# Altium schematic symbol library Hydrophone.SchLib: 16 symbols
Pins are listed as number, name and electrical type; pins without a type are passive.

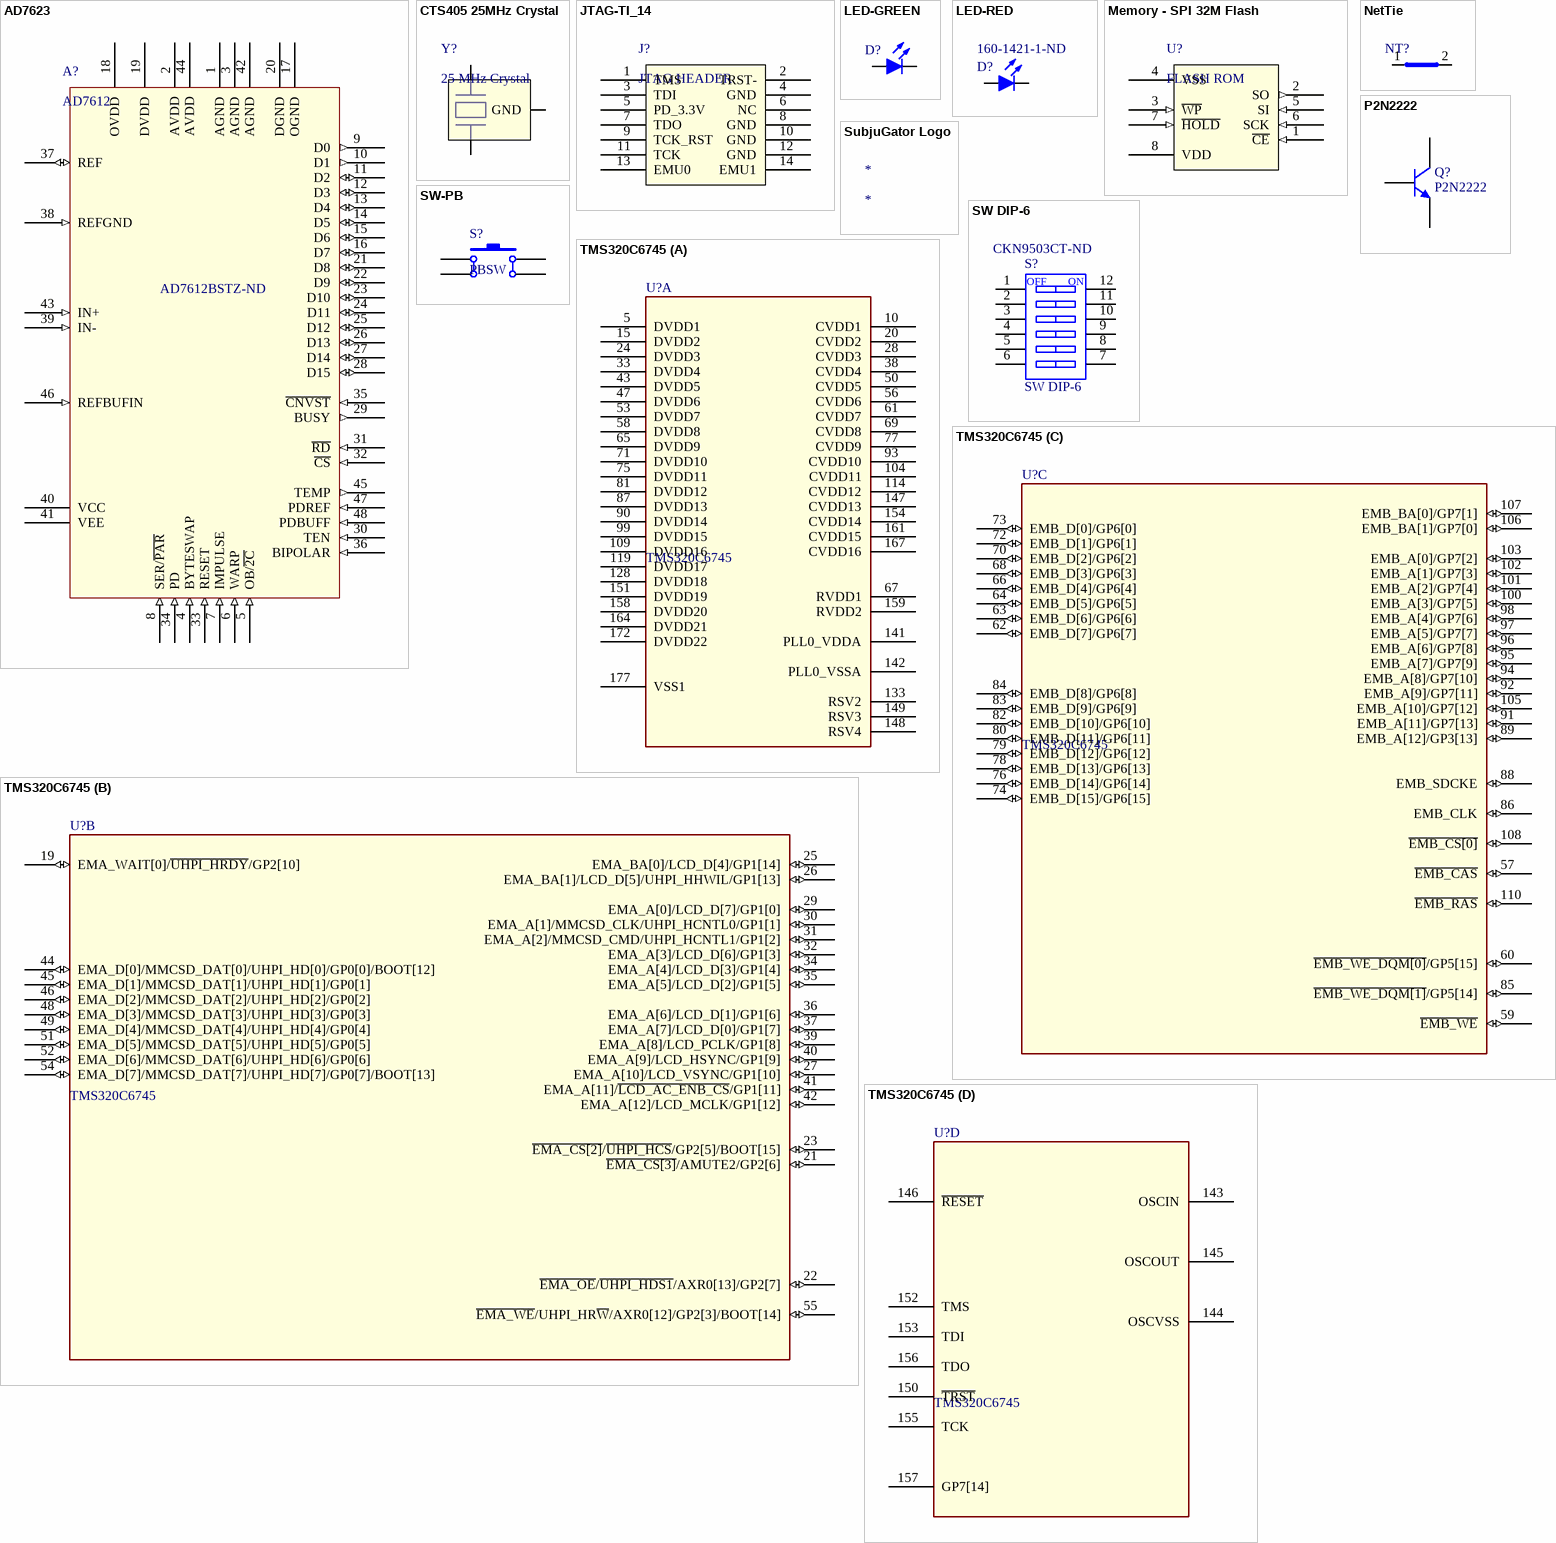
[diagram p0: symbols AD7623 to TMS320C6745]

## AD7623
designator A?, comment AD7612  Supplier Part Number: AD7612BSTZ-ND
Manufacturer Part Number: AD7612BSTZ; Manufacturer: Analog Devices Inc; Data Interface: Serial, Parallel; Sampling Rate (Per Second): 750k; Number of Bits: 16; Description: IC ADC 16BIT 750KSPS SAR 48-LQFP; Package / Case: 48-LQFP; Supplier: Digi-Key
footprint LQFP-48N (TSQFP, 48-Leads, Body 9.2x9.2mm (max), Pitch 0.50mm, IPC Medium Density)
pins: 1 AGND (power), 2 AVDD (power), 3 AGND (power), 4 BYTESWAP (in), 5 OB/~{2C} (in), 6 WARP (in), 7 IMPULSE (in), 8 SER/~{PAR} (in), 9 D0 (out), 10 D1 (out), 11 D2 (io), 12 D3 (io), 13 D4 (io), 14 D5 (io), 15 D6 (io), 16 D7 (io), 17 OGND (power), 18 OVDD (power), 19 DVDD (power), 20 DGND (power), 21 D8 (io), 22 D9 (io), 23 D10 (io), 24 D11 (io), 25 D12 (io), 26 D13 (io), 27 D14 (io), 28 D15 (io), 29 BUSY (out), 30 TEN (in), 31 ~{RD} (in), 32 ~{CS} (in), 33 RESET (in), 34 PD (in), 35 ~{CNVST} (in), 36 BIPOLAR (in), 37 REF (io), 38 REFGND (in), 39 IN- (in), 40 VCC (power), 41 VEE (power), 42 AGND (power), 43 IN+ (in), 44 AVDD (power), 45 TEMP (out), 46 REFBUFIN (in), 47 PDREF (in), 48 PDBUFF (in)

## CTS405 25MHz Crystal
designator Y?, comment 25 MHz Crystal
Manufacturer Part Number: 405C35B25M00000; Manufacturer: CTS-Frequency Controls; Description: CRYSTAL 25.000000 MHZ 13PF SMD; Frequency Stability: ±50ppm; ESR (Equivalent Series Resistance): 50 Ohm; Frequency: 25MHz; Load Capacitance: 13pF; Frequency Tolerance: ±30ppm; Supplier: Digi-Key; Package / Case: 4-SMD, No Lead (DFN, LCC); Supplier Part Number: CTX652TR-ND
footprint CTS405
pins: 1, 2,4 GND, 3 2

## JTAG-TI_14
designator J?, comment JTAG HEADER
14 Pin JTAG Header
footprint JTAG HEADER - 14
pins: 1 TMS, 2 TRST-, 3 TDI, 4 GND, 5 PD_3.3V, 6 NC, 7 TDO, 8 GND, 9 TCK_RST, 10 GND, 11 TCK, 12 GND, 13 EMU0, 14 EMU1

## LED-GREEN
designator D?  (value not drawn)
Light Emitting Diode - GREEN; Manufacturer: Lite-On Inc; Manufacturer Part Number: LTST-S220KGKT; Millicandela Rating: 35mcd; Viewing Angle: 130°; Voltage - Forward (Vf) Typ: 2V; Description: LED GREEN CLEAR 0805 RT ANG SMD; Package / Case: 0805 (2012 Metric); Color: Green; Supplier: Digi-Key; Supplier Part Number: 160-1468-1-ND
footprint LED0805-GREEN (Molded Diode, 2-Leads, Body 2.0x1.3mm, IPC Medium Density)
pins: 1 K, 2 A

## LED-RED
designator D?  Supplier Part Number: 160-1421-1-ND  (hidden comment: LED-RED)
Light Emitting Diode - RED; Manufacturer Part Number: LTST-C171CKT; Manufacturer: Lite-On Inc; Voltage - Forward (Vf) Typ: 1.8V; Current - Test: 20mA; Millicandela Rating: 25mcd; Viewing Angle: 130°; Description: LED ALGAAS RED THIN 0805 SMD; Color: Red; Supplier: Digi-Key; Package / Case: 0805 (2012 Metric)
footprint LED0805-RED (Molded Diode, 2-Leads, Body 2.0x1.3mm, IPC Medium Density)
pins: 1 K, 2 A

## Memory - SPI 32M Flash
designator U?, comment FLASH ROM
IC FLASH SER 32M 80MHZ SPI 8SOIC; Manufacturer Part Number: SST25VF032B-80-4I-S2AF; Manufacturer: Microchip Technology; Voltage - Supply: 2.7 V ~ 3.6 V; Memory Size: 32M (4M x 8); Interface: SPI Serial; Memory Type: FLASH; Supplier: Digi-Key; Package / Case: 8-SOIC (0.209", 5.30mm Width); Supplier Part Number: SST25VF032B-80-4I-S2AF-ND
footprint SOIC-8N (SOIC, 8-Leads, Body 5.4x5.4mm (max), Pitch 1.27mm, IPC Medium Density)
pins: 1 ~{CE} (in), 2 SO (out), 3 ~{WP} (in), 4 VSS (power), 5 SI (in), 6 SCK (in), 7 ~{HOLD} (in), 8 VDD (power)

## MIL LOGO
designator MIL  (value not drawn)
footprint MIL LOGO - 500
footprint MIL LOGO - 400

## NetTie
designator NT?, comment Net Tie SMT  (value not drawn)  (net tie, no BOM)
Net-Tie, Surface Mount
footprint NetTie 35 mil
pins: 1 Net1, 2 Net2

## P2N2222
designator Q?
TRANS GP SS NPN LP 40V TO92; Manufacturer Part Number: P2N2222AG; Manufacturer: ON Semiconductor; Transistor Type: NPN; Voltage - Collector Emitter Breakdown (Max): 40V; Supplier: Digi-Key; Package / Case: TO-226-3, TO-92-3 (TO-226AA); Supplier Part Number: P2N2222AGOS-ND
footprint TO-92A (TO, Flat Index; 3 In-Line, Axial Leads; Body Dia. 4.5mm; Leads 0.51 x 0.48 mm (max))
pins: 1 C, 2 B, 3 E

## SubjuGator Logo
designator *
footprint SubjuGator-800
footprint SubjuGator-1200

## SW DIP-6
designator S?  Supplier Part Number: CKN9503CT-ND
SWITCH DIP 6POS HALF PITCH SMD; Manufacturer: C&K Components; Manufacturer Part Number: TDA06H0SB1R; Contact Rating @ Voltage: 0.025A @ 24VDC; Number of Positions: 6; Circuit: SPST; Actuator Level: Flush; Supplier: Digi-Key
footprint DIPSW-6 (6 POS Dip SW)
pins: 1 A1, 2 A2, 3 A3, 4 A4, 5 A5, 6 A6, 7 B6, 8 B5, 9 B4, 10 B3, 11 B2, 12 B1
text: OFF; ON

## SW-PB
designator S?, comment PBSW
Push Button Switch; Manufacturer: Panasonic Electronic Components; Manufacturer Part Number: EVQ-9P105M; Description: SWITCH TACTILE SPST-NO 0.05A 12V; Outline: 6.10mm x 6.00mm; Actuator Orientation: Top Actuated; Actuator Height off PCB, from Pins: 5.00mm; Published: 24-Mar-1999; LatestRevisionDate: 17-Jul-2002; LatestRevisionNote: Re-released for DXP Platform.; PackageReference: SPST-2; Publisher: Altium Limited; PackageDescription: Switch; 2 Leads; Supplier: Digi-Key; Supplier Part Number: P13586SCT-ND
footprint PBSW
pins: 1 A, 2 A' hidden to 1, 2 A', 3 B, 4 B' hidden to 3, 4 B'

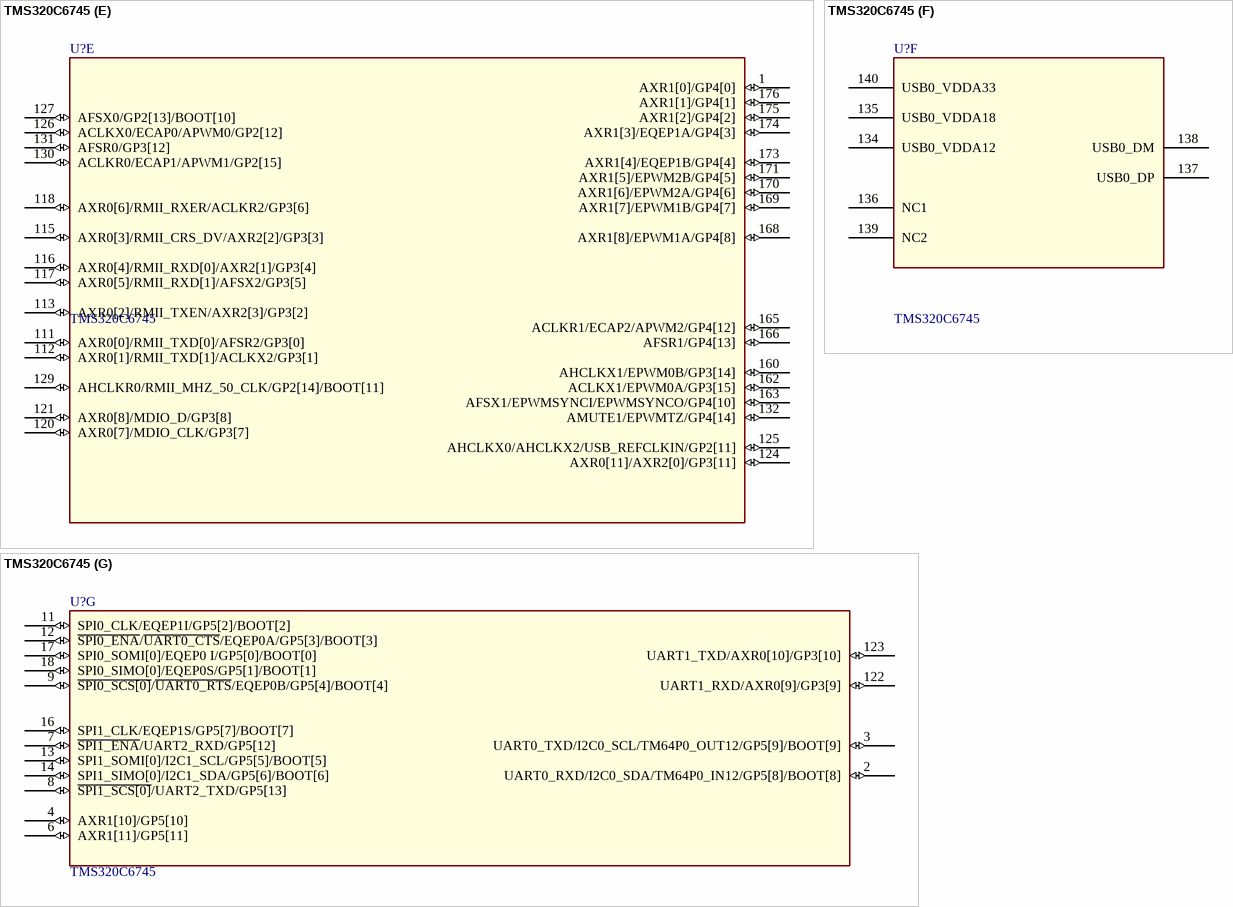
[diagram p1: symbol TMS320C6745]

## TMS320C6745
designator U?
IC DSP FIX/FLOAT POINT 176HLQFP; Manufacturer Part Number: TMS320C6745CPTP4; Manufacturer: Texas Instruments; Voltage - Core: 1.20V; On-Chip RAM: 320kB; Voltage - I/O: 3.30V; Clock Rate: 456MHz; SlotXofY: SYM 7 OF 7; Supplier: Digi-Key; Type: Fixed/Floating Point; Package / Case: 176-LQFP Exposed Pad; SymName: TMS320C6745; Supplier Part Number: 296-30152-5-ND
footprint PQFP-176N (PQFP, 176-Leads, Body 25.8x25.8mm (max), Pitch 0.50mm, IPC Medium Density)
part A pins: 5 DVDD1 (power), 10 CVDD1 (power), 15 DVDD2 (power), 20 CVDD2 (power), 24 DVDD3 (power), 28 CVDD3 (power), 33 DVDD4 (power), 38 CVDD4 (power), 43 DVDD5 (power), 47 DVDD6 (power), 50 CVDD5 (power), 53 DVDD7 (power), 56 CVDD6 (power), 58 DVDD8 (power), 61 CVDD7 (power), 65 DVDD9 (power), 67 RVDD1 (power), 69 CVDD8 (power), 71 DVDD10 (power), 75 DVDD11 (power), 77 CVDD9 (power), 81 DVDD12 (power), 87 DVDD13 (power), 90 DVDD14 (power), 93 CVDD10 (power), 99 DVDD15 (power), 104 CVDD11 (power), 109 DVDD16 (power), 114 CVDD12 (power), 119 DVDD17 (power), 128 DVDD18 (power), 133 RSV2, 141 PLL0_VDDA, 142 PLL0_VSSA, 147 CVDD13 (power), 148 RSV4, 149 RSV3, 151 DVDD19 (power), 154 CVDD14 (power), 158 DVDD20 (power), 159 RVDD2 (power), 161 CVDD15 (power), 164 DVDD21 (power), 167 CVDD16 (power), 172 DVDD22, 177 VSS1 (power)
part B pins: 19 EMA_WAIT[0]/~{UHPI_HRDY}/GP2[10] (io), 21 ~{EMA_CS[3]}/AMUTE2/GP2[6] (io), 22 ~{EMA_OE}/~{UHPI_HDS1}/AXR0[13]/GP2[7] (io), 23 ~{EMA_CS[2]}/~{UHPI_HCS}/GP2[5]/BOOT[15] (io), 25 EMA_BA[0]/LCD_D[4]/GP1[14] (io), 26 EMA_BA[1]/LCD_D[5]/UHPI_HHWIL/GP1[13] (io), 27 EMA_A[10]/LCD_VSYNC/GP1[10] (io), 29 EMA_A[0]/LCD_D[7]/GP1[0] (io), 30 EMA_A[1]/MMCSD_CLK/UHPI_HCNTL0/GP1[1] (io), 31 EMA_A[2]/MMCSD_CMD/UHPI_HCNTL1/GP1[2] (io), 32 EMA_A[3]/LCD_D[6]/GP1[3] (io), 34 EMA_A[4]/LCD_D[3]/GP1[4] (io), 35 EMA_A[5]/LCD_D[2]/GP1[5] (io), 36 EMA_A[6]/LCD_D[1]/GP1[6] (io), 37 EMA_A[7]/LCD_D[0]/GP1[7] (io), 39 EMA_A[8]/LCD_PCLK/GP1[8] (io), 40 EMA_A[9]/LCD_HSYNC/GP1[9] (io), 41 EMA_A[11]/~{LCD_AC_ENB_CS}/GP1[11] (io), 42 EMA_A[12]/LCD_MCLK/GP1[12] (io), 44 EMA_D[0]/MMCSD_DAT[0]/UHPI_HD[0]/GP0[0]/BOOT[12] (io), 45 EMA_D[1]/MMCSD_DAT[1]/UHPI_HD[1]/GP0[1] (io), 46 EMA_D[2]/MMCSD_DAT[2]/UHPI_HD[2]/GP0[2] (io), 48 EMA_D[3]/MMCSD_DAT[3]/UHPI_HD[3]/GP0[3] (io), 49 EMA_D[4]/MMCSD_DAT[4]/UHPI_HD[4]/GP0[4] (io), 51 EMA_D[5]/MMCSD_DAT[5]/UHPI_HD[5]/GP0[5] (io), 52 EMA_D[6]/MMCSD_DAT[6]/UHPI_HD[6]/GP0[6] (io), 54 EMA_D[7]/MMCSD_DAT[7]/UHPI_HD[7]/GP0[7]/BOOT[13] (io), 55 ~{EMA_WE}/UHPI_HR~{W}/AXR0[12]/GP2[3]/BOOT[14] (io)
part C pins: 57 ~{EMB_CAS} (io), 59 ~{EMB_WE} (io), 60 ~{EMB_WE_DQM[0]}/GP5[15] (io), 62 EMB_D[7]/GP6[7] (io), 63 EMB_D[6]/GP6[6] (io), 64 EMB_D[5]/GP6[5] (io), 66 EMB_D[4]/GP6[4] (io), 68 EMB_D[3]/GP6[3] (io), 70 EMB_D[2]/GP6[2] (io), 72 EMB_D[1]/GP6[1] (io), 73 EMB_D[0]/GP6[0] (io), 74 EMB_D[15]/GP6[15] (io), 76 EMB_D[14]/GP6[14] (io), 78 EMB_D[13]/GP6[13] (io), 79 EMB_D[12]/GP6[12] (io), 80 EMB_D[11]/GP6[11] (io), 82 EMB_D[10]/GP6[10] (io), 83 EMB_D[9]/GP6[9] (io), 84 EMB_D[8]/GP6[8] (io), 85 ~{EMB_WE_DQM[1]}/GP5[14] (io), 86 EMB_CLK (io), 88 EMB_SDCKE (io), 89 EMB_A[12]/GP3[13] (io), 91 EMB_A[11]/GP7[13] (io), 92 EMB_A[9]/GP7[11] (io), 94 EMB_A[8]/GP7[10] (io), 95 EMB_A[7]/GP7[9] (io), 96 EMB_A[6]/GP7[8] (io), 97 EMB_A[5]/GP7[7] (io), 98 EMB_A[4]/GP7[6] (io), 100 EMB_A[3]/GP7[5] (io), 101 EMB_A[2]/GP7[4] (io), 102 EMB_A[1]/GP7[3] (io), 103 EMB_A[0]/GP7[2] (io), 105 EMB_A[10]/GP7[12] (io), 106 EMB_BA[1]/GP7[0] (io), 107 EMB_BA[0]/GP7[1] (io), 108 ~{EMB_CS[0]} (io), 110 ~{EMB_RAS} (io)
part D pins: 143 OSCIN, 144 OSCVSS, 145 OSCOUT, 146 ~{RESET}, 150 ~{TRST}, 152 TMS, 153 TDI, 155 TCK, 156 TDO, 157 GP7[14]
part E pins: 1 AXR1[0]/GP4[0] (io), 111 AXR0[0]/RMII_TXD[0]/AFSR2/GP3[0] (io), 112 AXR0[1]/RMII_TXD[1]/ACLKX2/GP3[1] (io), 113 AXR0[2]/RMII_TXEN/AXR2[3]/GP3[2] (io), 115 AXR0[3]/RMII_CRS_DV/AXR2[2]/GP3[3] (io), 116 AXR0[4]/RMII_RXD[0]/AXR2[1]/GP3[4] (io), 117 AXR0[5]/RMII_RXD[1]/AFSX2/GP3[5] (io), 118 AXR0[6]/RMII_RXER/ACLKR2/GP3[6] (io), 120 AXR0[7]/MDIO_CLK/GP3[7] (io), 121 AXR0[8]/MDIO_D/GP3[8] (io), 124 AXR0[11]/AXR2[0]/GP3[11] (io), 125 AHCLKX0/AHCLKX2/USB_REFCLKIN/GP2[11] (io), 126 ACLKX0/ECAP0/APWM0/GP2[12] (io), 127 AFSX0/GP2[13]/BOOT[10] (io), 129 AHCLKR0/RMII_MHZ_50_CLK/GP2[14]/BOOT[11] (io), 130 ACLKR0/ECAP1/APWM1/GP2[15] (io), 131 AFSR0/GP3[12] (io), 132 AMUTE1/EPWMTZ/GP4[14] (io), 160 AHCLKX1/EPWM0B/GP3[14] (io), 162 ACLKX1/EPWM0A/GP3[15] (io), 163 AFSX1/EPWMSYNCI/EPWMSYNCO/GP4[10] (io), 165 ACLKR1/ECAP2/APWM2/GP4[12] (io), 166 AFSR1/GP4[13] (io), 168 AXR1[8]/EPWM1A/GP4[8] (io), 169 AXR1[7]/EPWM1B/GP4[7] (io), 170 AXR1[6]/EPWM2A/GP4[6] (io), 171 AXR1[5]/EPWM2B/GP4[5] (io), 173 AXR1[4]/EQEP1B/GP4[4] (io), 174 AXR1[3]/EQEP1A/GP4[3] (io), 175 AXR1[2]/GP4[2] (io), 176 AXR1[1]/GP4[1] (io)
part F pins: 134 USB0_VDDA12, 135 USB0_VDDA18, 136 NC1, 137 USB0_DP, 138 USB0_DM, 139 NC2, 140 USB0_VDDA33
part G pins: 2 UART0_RXD/I2C0_SDA/TM64P0_IN12/GP5[8]/BOOT[8] (io), 3 UART0_TXD/I2C0_SCL/TM64P0_OUT12/GP5[9]/BOOT[9] (io), 4 AXR1[10]/GP5[10] (io), 6 AXR1[11]/GP5[11] (io), 7 ~{SPI1_ENA}/UART2_RXD/GP5[12] (io), 8 ~{SPI1_SCS[0]}/UART2_TXD/GP5[13] (io), 9 ~{SPI0_SCS[0]}/~{UART0_RTS}/EQEP0B/GP5[4]/BOOT[4] (io), 11 SPI0_CLK/EQEP1I/GP5[2]/BOOT[2] (io), 12 ~{SPI0_ENA}/~{UART0_CTS}/EQEP0A/GP5[3]/BOOT[3] (io), 13 SPI1_SOMI[0]/I2C1_SCL/GP5[5]/BOOT[5] (io), 14 SPI1_SIMO[0]/I2C1_SDA/GP5[6]/BOOT[6] (io), 16 SPI1_CLK/EQEP1S/GP5[7]/BOOT[7] (io), 17 SPI0_SOMI[0]/EQEP0 I/GP5[0]/BOOT[0] (io), 18 SPI0_SIMO[0]/EQEP0S/GP5[1]/BOOT[1] (io), 122 UART1_RXD/AXR0[9]/GP3[9] (io), 123 UART1_TXD/AXR0[10]/GP3[10] (io)

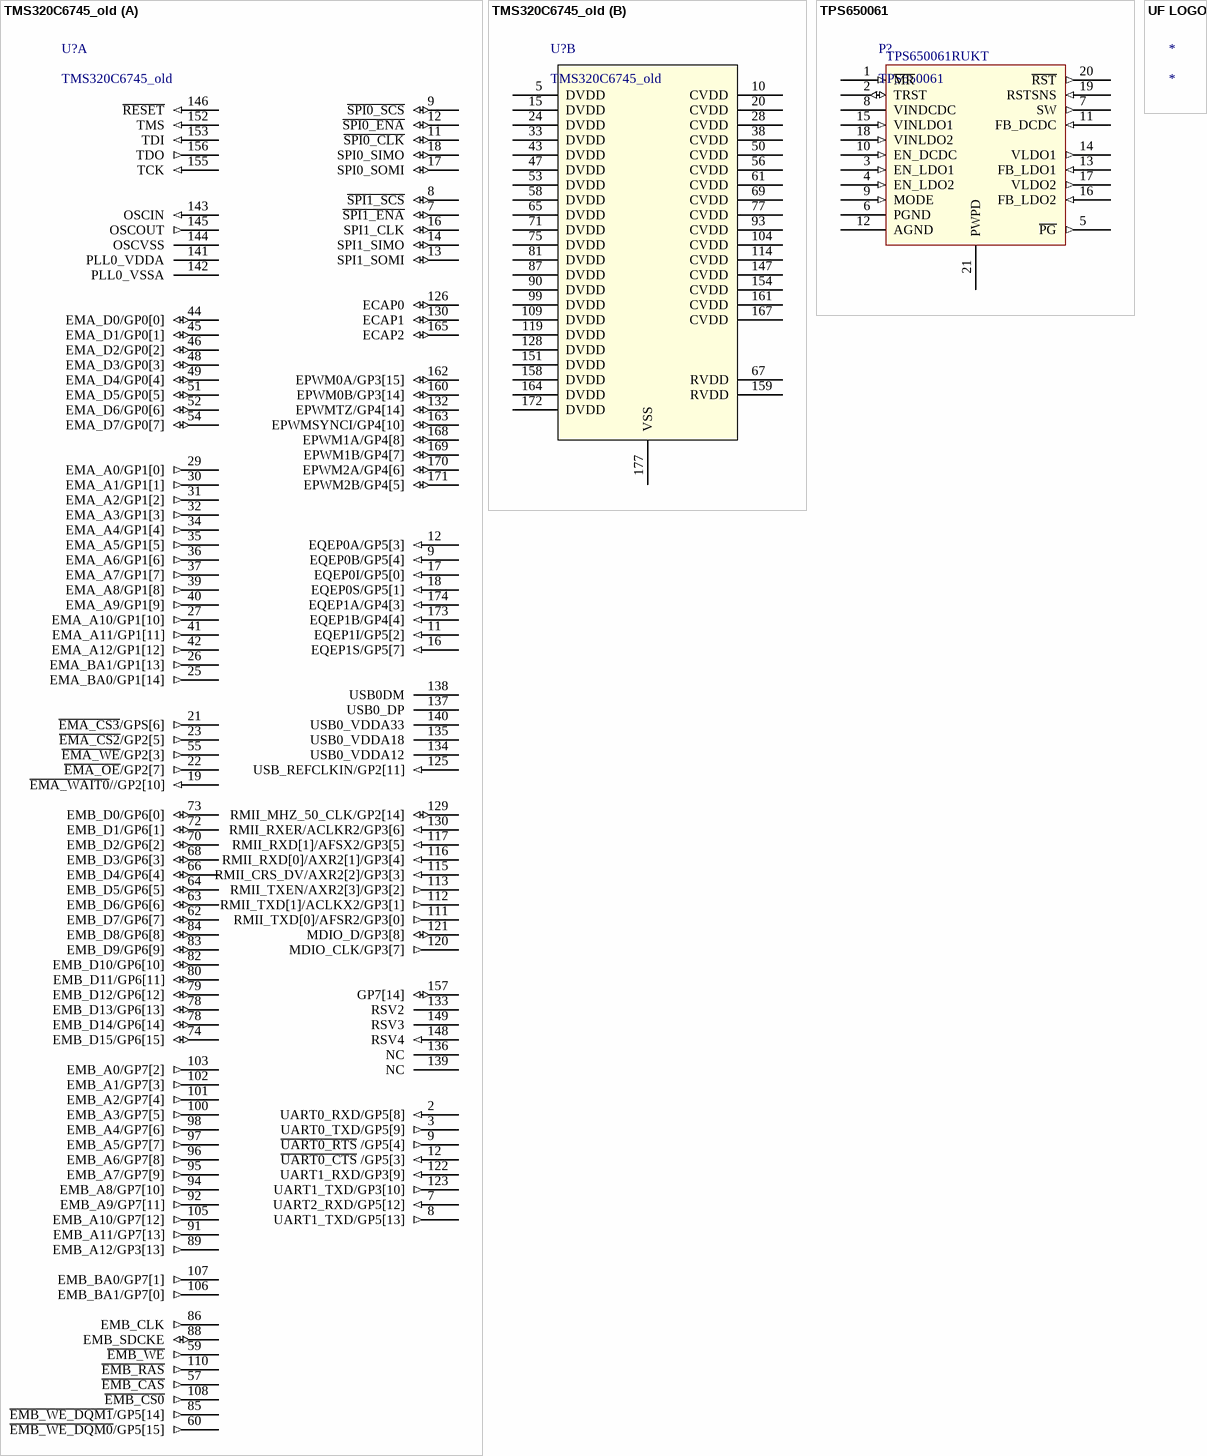
[diagram p2: symbols TMS320C6745_old to UF LOGO]

## TMS320C6745_old
designator U?
Manufacturer: Texas Instruments; Manufacturer Part Number: TMS320C6745CPTP4; Voltage - Core: 1.20V; Clock Rate: 456MHz; Description: IC DSP FIX/FLOAT POINT 176HLQFP; Voltage - I/O: 3.30V; Supplier Device Package: 176-HLQFP (24x24); Supplier: Digi-Key; Package / Case: 176-LQFP Exposed Pad; Type: Fixed/Floating Point; Supplier Part Number: 296-30152-5-ND
part A pins: 2 UART0_RXD/GP5[8] (in), 3 UART0_TXD/GP5[9] (out), 7 ~{SPI1_ENA} (io), 7 UART2_RXD/GP5[12] (in), 8 ~{SPI1_SCS} (io), 8 UART1_TXD/GP5[13] (out), 9 ~{SPI0_SCS} (io), 9 EQEP0B/GP5[4] (in), 9 ~{UART0_RTS} /GP5[4] (out), 11 ~{SPI0_CLK} (io), 11 EQEP1I/GP5[2] (in), 12 ~{SPI0_ENA} (io), 12 EQEP0A/GP5[3] (in), 12 ~{UART0_CTS} /GP5[3] (in), 13 SPI1_SOMI (io), 14 SPI1_SIMO (io), 16 SPI1_CLK (io), 16 EQEP1S/GP5[7] (in), 17 SPI0_SOMI (io), 17 EQEP0I/GP5[0] (in), 18 SPI0_SIMO (io), 18 EQEP0S/GP5[1] (in), 19 ~{EMA_WAIT0}//GP2[10] (in), 21 ~{EMA_CS3}/GPS[6] (out), 22 ~{EMA_OE}/GP2[7] (out), 23 ~{EMA_CS2}/GP2[5] (out), 25 EMA_BA0/GP1[14] (out), 26 EMA_BA1/GP1[13] (out), 27 EMA_A10/GP1[10] (out), 29 EMA_A0/GP1[0] (out), 30 EMA_A1/GP1[1] (out), 31 EMA_A2/GP1[2] (out), 32 EMA_A3/GP1[3] (out), 34 EMA_A4/GP1[4] (out), 35 EMA_A5/GP1[5] (out), 36 EMA_A6/GP1[6] (out), 37 EMA_A7/GP1[7] (out), 39 EMA_A8/GP1[8] (out), 40 EMA_A9/GP1[9] (out), 41 EMA_A11/GP1[11] (out), 42 EMA_A12/GP1[12] (out), 44 EMA_D0/GP0[0] (io), 45 EMA_D1/GP0[1] (io), 46 EMA_D2/GP0[2] (io), 48 EMA_D3/GP0[3] (io), 49 EMA_D4/GP0[4] (io), 51 EMA_D5/GP0[5] (io), 52 EMA_D6/GP0[6] (io), 54 EMA_D7/GP0[7] (io), 55 ~{EMA_WE}/GP2[3] (out), 57 ~{EMB_CAS} (out), 59 ~{EMB_WE} (out), 60 ~{EMB_WE_DQM0}/GP5[15] (out), 62 EMB_D7/GP6[7] (io), 63 EMB_D6/GP6[6] (io), 64 EMB_D5/GP6[5] (io), 66 EMB_D4/GP6[4] (io), 68 EMB_D3/GP6[3] (io), 70 EMB_D2/GP6[2] (io), 72 EMB_D1/GP6[1] (io), 73 EMB_D0/GP6[0] (io), 74 EMB_D15/GP6[15] (io), 78 EMB_D13/GP6[13] (io), 78 EMB_D14/GP6[14] (io), 79 EMB_D12/GP6[12] (io), 80 EMB_D11/GP6[11] (io), 82 EMB_D10/GP6[10] (io), 83 EMB_D9/GP6[9] (io), 84 EMB_D8/GP6[8] (io), 85 ~{EMB_WE_DQM1}/GP5[14] (out), 86 EMB_CLK (out), 88 EMB_SDCKE (io), 89 EMB_A12/GP3[13] (out), 91 EMB_A11/GP7[13] (out), 92 EMB_A9/GP7[11] (out), 94 EMB_A8/GP7[10] (out), 95 EMB_A7/GP7[9] (out), 96 EMB_A6/GP7[8] (out), 97 EMB_A5/GP7[7] (out), 98 EMB_A4/GP7[6] (out), 100 EMB_A3/GP7[5] (out), 101 EMB_A2/GP7[4] (out), 102 EMB_A1/GP7[3] (out), 103 EMB_A0/GP7[2] (out), 105 EMB_A10/GP7[12] (out), 106 EMB_BA1/GP7[0] (out), 107 EMB_BA0/GP7[1] (out), 108 ~{EMB_CS0} (out), 110 ~{EMB_RAS} (out), 111 RMII_TXD[0]/AFSR2/GP3[0] (out), 112 RMII_TXD[1]/ACLKX2/GP3[1] (out), 113 RMII_TXEN/AXR2[3]/GP3[2] (out), 115 RMII_CRS_DV/AXR2[2]/GP3[3] (in), 116 RMII_RXD[0]/AXR2[1]/GP3[4] (in), 117 RMII_RXD[1]/AFSX2/GP3[5] (in), 120 MDIO_CLK/GP3[7] (out), 121 MDIO_D/GP3[8] (io), 122 UART1_RXD/GP3[9] (in), 123 UART1_TXD/GP3[10] (out), 125 USB_REFCLKIN/GP2[11] (in), 126 ECAP0 (io), 129 RMII_MHZ_50_CLK/GP2[14] (io), 130 ECAP1 (io), 130 RMII_RXER/ACLKR2/GP3[6] (in), 132 EPWMTZ/GP4[14] (io), 133 RSV2 (power), 134 USB0_VDDA12 (power), 135 USB0_VDDA18 (power), 136 NC, 137 USB0_DP, 138 USB0DM, 139 NC, 140 USB0_VDDA33 (power), 141 PLL0_VDDA (power), 142 PLL0_VSSA (power), 143 OSCIN (in), 144 OSCVSS (power), 145 OSCOUT (out), 146 ~{RESET} (in), 148 RSV4 (in), 149 RSV3 (power), 152 TMS (in), 153 TDI (in), 155 TCK (in), 156 TDO (out), 157 GP7[14] (io), 160 EPWM0B/GP3[14] (io), 162 EPWM0A/GP3[15] (io), 163 EPWMSYNCI/GP4[10] (io), 165 ECAP2 (io), 168 EPWM1A/GP4[8] (io), 169 EPWM1B/GP4[7] (io), 170 EPWM2A/GP4[6] (io), 171 EPWM2B/GP4[5] (io), 173 EQEP1B/GP4[4] (in), 174 EQEP1A/GP4[3] (in)
part B pins: 5 DVDD (power), 10 CVDD (power), 15 DVDD (power), 20 CVDD (power), 24 DVDD (power), 28 CVDD (power), 33 DVDD (power), 38 CVDD (power), 43 DVDD (power), 47 DVDD (power), 50 CVDD (power), 53 DVDD (power), 56 CVDD (power), 58 DVDD (power), 61 CVDD (power), 65 DVDD (power), 67 RVDD (power), 69 CVDD (power), 71 DVDD (power), 75 DVDD (power), 77 CVDD (power), 81 DVDD (power), 87 DVDD (power), 90 DVDD (power), 93 CVDD (power), 99 DVDD (power), 104 CVDD (power), 109 DVDD (power), 114 CVDD (power), 119 DVDD (power), 128 DVDD (power), 147 CVDD (power), 151 DVDD (power), 154 CVDD (power), 158 DVDD (power), 159 RVDD (power), 161 CVDD (power), 164 DVDD (power), 167 CVDD (power), 172 DVDD (power), 177 VSS (power)

## TPS650061
designator P?  Manufacturer Part Number: TPS650061RUKT
IC CONV STP-DWN 2.25MHZ DL 20QFN; Manufacturer: Texas Instruments; Voltage - Supply: 2.3 V ~ 6 V; Operating Temperature: -40°C ~ 85°C; Package / Case: 20-WFQFN Exposed Pad; Supplier: Digi-Key; Supplier Part Number: 296-25358-1-ND
footprint QFN4-20N (QFN, 20-Leads, Body 3.1x3.1mm (max), Pitch 0.40mm, IPC Medium Density)
pins: 1 ~{MR} (in), 2 TRST (io), 3 EN_LDO1 (in), 4 EN_LDO2 (in), 5 ~{PG} (out), 6 PGND (power), 7 SW (out), 8 VINDCDC (power), 9 MODE (in), 10 EN_DCDC (in), 11 FB_DCDC (in), 12 AGND (power), 13 FB_LDO1 (in), 14 VLDO1 (out), 15 VINLDO1 (in), 16 FB_LDO2 (in), 17 VLDO2 (out), 18 VINLDO2 (in), 19 RSTSNS (in), 20 ~{RST} (out), 21 PWPD (power)

## UF LOGO
designator *
footprint UF LOGO-1000